# EAGLE library part STM32F205RE (library KVB-MCUs)
ARM® Cortex®-M3 STM32 F2 Microcontroller IC 32-Bit 120MHz 512KB (512K x 8) FLASH 64-LQFP (10x10)
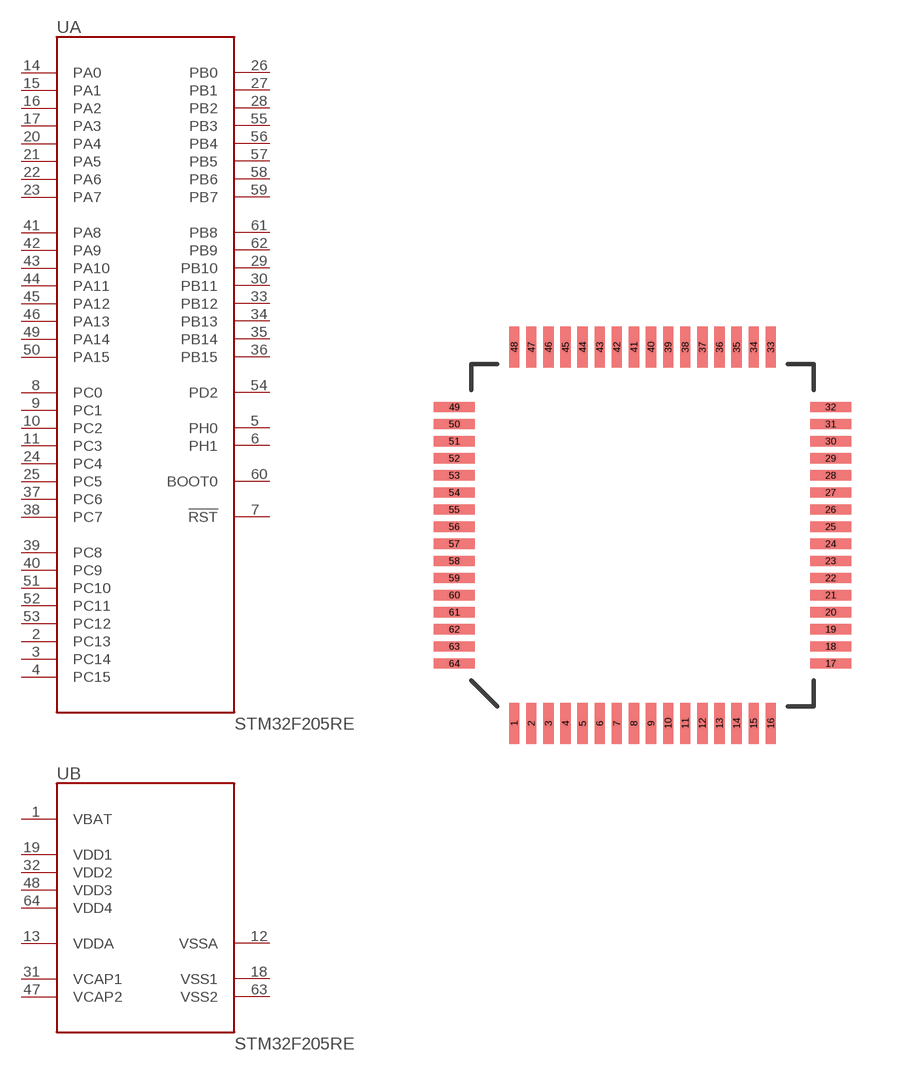
[diagram p4: symbol with the pads of LQFP64; footprint LQFP64]

Designator prefix U; gates A=STM32F205RE-A B=STM32F205RE-B

## STM32F205RE (MAN-PART_NUM: STM32F205RE; MANUFACTURER: STMicroelectronics)  [LQFP64]
1  B:VBAT
2  A:PC13
3  A:PC14
4  A:PC15
5  A:PH0
6  A:PH1
7  A:!RST
8  A:PC0
9  A:PC1
10  A:PC2
11  A:PC3
12  B:VSSA
13  B:VDDA
14  A:PA0
15  A:PA1
16  A:PA2
17  A:PA3
18  B:VSS1
19  B:VDD1
20  A:PA4
21  A:PA5
22  A:PA6
23  A:PA7
24  A:PC4
25  A:PC5
26  A:PB0
27  A:PB1
28  A:PB2
29  A:PB10
30  A:PB11
31  B:VCAP1
32  B:VDD2
33  A:PB12
34  A:PB13
35  A:PB14
36  A:PB15
37  A:PC6
38  A:PC7
39  A:PC8
40  A:PC9
41  A:PA8
42  A:PA9
43  A:PA10
44  A:PA11
45  A:PA12
46  A:PA13
47  B:VCAP2
48  B:VDD3
49  A:PA14
50  A:PA15
51  A:PC10
52  A:PC11
53  A:PC12
54  A:PD2
55  A:PB3
56  A:PB4
57  A:PB5
58  A:PB6
59  A:PB7
60  A:BOOT0
61  A:PB8
62  A:PB9
63  B:VSS2
64  B:VDD4

## Footprint LQFP64 (pad centres in mm)
smd 0.3 x 1.2: 1 -3.75,-5.5; 2 -3.25,-5.5; 3 -2.75,-5.5; 4 -2.25,-5.5; 5 -1.75,-5.5; 6 -1.25,-5.5; 7 -0.75,-5.5; 8 -0.25,-5.5; 9 0.25,-5.5; 10 0.75,-5.5; 11 1.25,-5.5; 12 1.75,-5.5; 13 2.25,-5.5; 14 2.75,-5.5; 15 3.25,-5.5; 16 3.75,-5.5; 33 3.75,5.5; 34 3.25,5.5; 35 2.75,5.5; 36 2.25,5.5; 37 1.75,5.5; 38 1.25,5.5; 39 0.75,5.5; 40 0.25,5.5; 41 -0.25,5.5; 42 -0.75,5.5; 43 -1.25,5.5; 44 -1.75,5.5; 45 -2.25,5.5; 46 -2.75,5.5; 47 -3.25,5.5; 48 -3.75,5.5
smd 1.2 x 0.3: 17 5.5,-3.75; 18 5.5,-3.25; 19 5.5,-2.75; 20 5.5,-2.25; 21 5.5,-1.75; 22 5.5,-1.25; 23 5.5,-0.75; 24 5.5,-0.25; 25 5.5,0.25; 26 5.5,0.75; 27 5.5,1.25; 28 5.5,1.75; 29 5.5,2.25; 30 5.5,2.75; 31 5.5,3.25; 32 5.5,3.75; 49 -5.5,3.75; 50 -5.5,3.25; 51 -5.5,2.75; 52 -5.5,2.25; 53 -5.5,1.75; 54 -5.5,1.25; 55 -5.5,0.75; 56 -5.5,0.25; 57 -5.5,-0.25; 58 -5.5,-0.75; 59 -5.5,-1.25; 60 -5.5,-1.75; 61 -5.5,-2.25; 62 -5.5,-2.75; 63 -5.5,-3.25; 64 -5.5,-3.75